# EAGLE library part RASPBERRY_PI_CM (library geusebio)
Raspberry Pi Compute Module As anounced in this blog post http://www.raspberrypi.org/raspberry-pi-compute-module-new-product/ Based on infomation from this schematic http://www.raspberrypi.org/wp-content/uploads/2014/04/RPI-CM-V1_1-SCHEMATIC.pdf Footprint is unproven and no matching part confimed as of yet
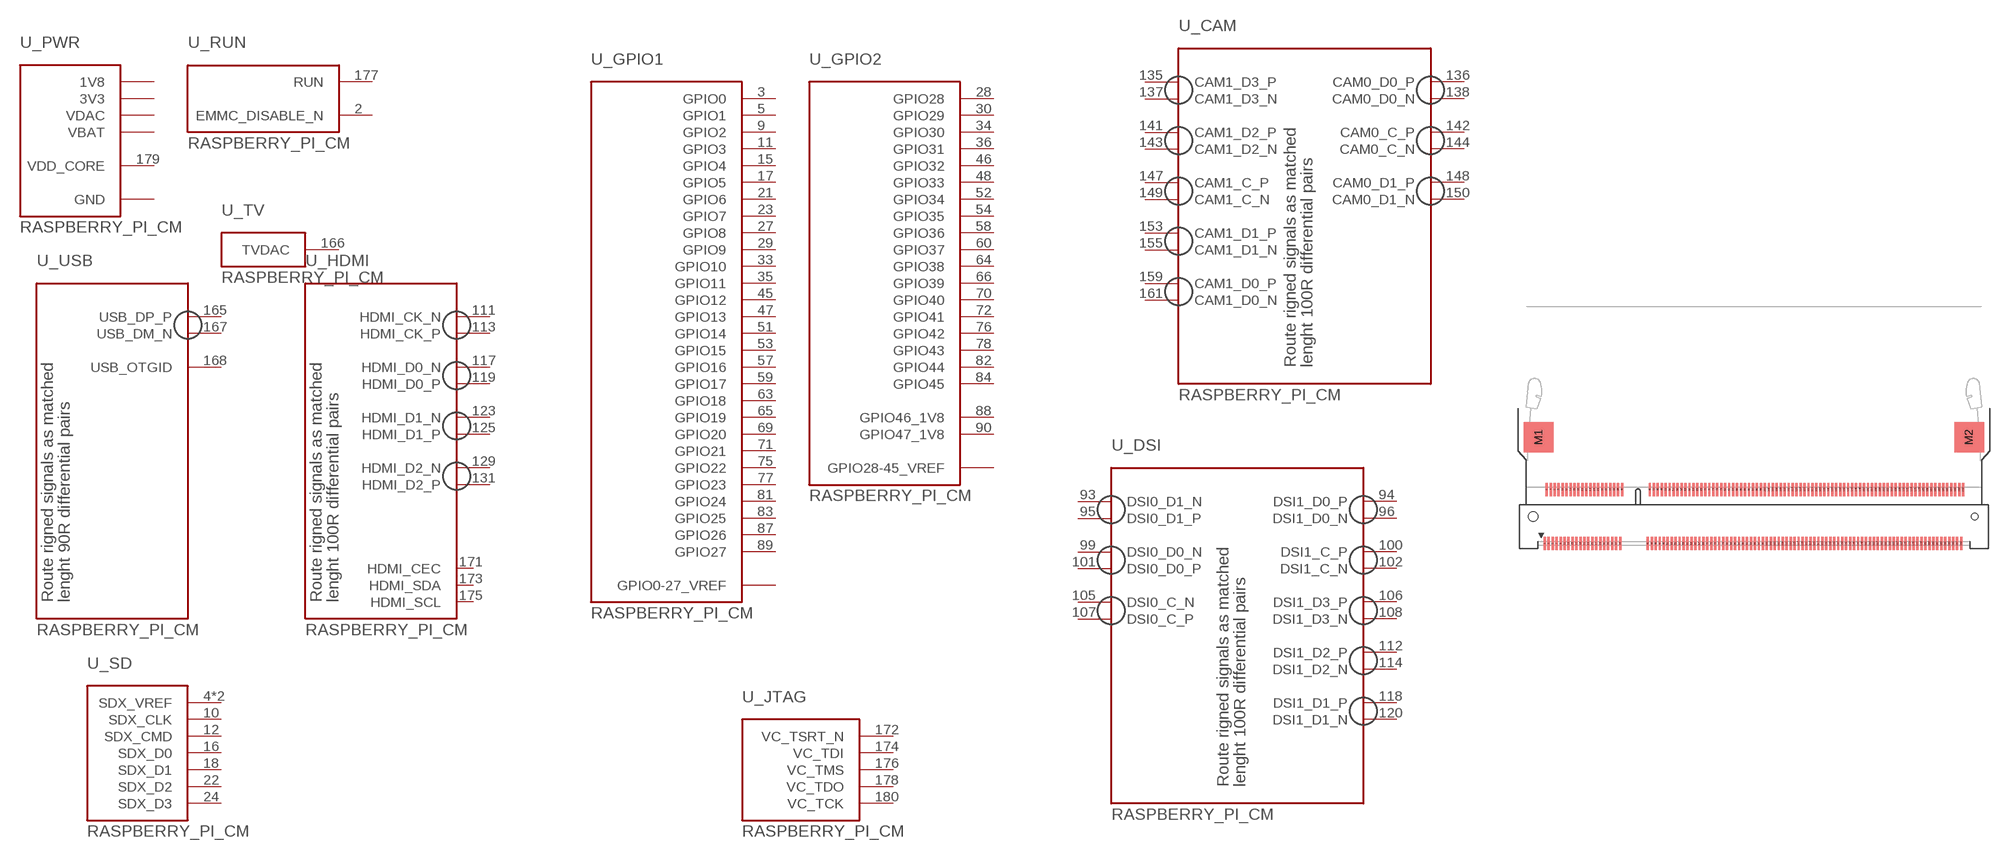
[diagram p14: symbol with the pads of 1-1376408-4; footprint 1-1376408-4]

Designator prefix U; gates _PWR=CM_PWR _RUN=CM_RUN _USB=CM_USB _TV=CM_TV _HDMI=CM_HDMI _GPIO1=CM_GPIO1 _GPIO2=CM_GPIO2 _CAM=CM_CAM _DSI=CM_DSI _JTAG=CM_JTAG _SD=CM_SD

## RASPBERRY_PI_CM-1-1376408-4  [1-1376408-4]
1  _PWR:GND
2  _RUN:EMMC_DISABLE_N
3  _GPIO1:GPIO0
4  _SD:SDX_VREF
5  _GPIO1:GPIO1
6  _SD:SDX_VREF
7  _PWR:GND
8  _PWR:GND
9  _GPIO1:GPIO2
10  _SD:SDX_CLK
11  _GPIO1:GPIO3
12  _SD:SDX_CMD
13  _PWR:GND
14  _PWR:GND
15  _GPIO1:GPIO4
16  _SD:SDX_D0
17  _GPIO1:GPIO5
18  _SD:SDX_D1
19  _PWR:GND
20  _PWR:GND
21  _GPIO1:GPIO6
22  _SD:SDX_D2
23  _GPIO1:GPIO7
24  _SD:SDX_D3
25  _PWR:GND
26  _PWR:GND
27  _GPIO1:GPIO8
28  _GPIO2:GPIO28
29  _GPIO1:GPIO9
30  _GPIO2:GPIO29
31  _PWR:GND
32  _PWR:GND
33  _GPIO1:GPIO10
34  _GPIO2:GPIO30
35  _GPIO1:GPIO11
36  _GPIO2:GPIO31
37  _PWR:GND
38  _PWR:GND
39  _GPIO1:GPIO0-27_VREF
40  _GPIO1:GPIO0-27_VREF
41  _GPIO2:GPIO28-45_VREF
42  _GPIO2:GPIO28-45_VREF
43  _PWR:GND
44  _PWR:GND
45  _GPIO1:GPIO12
46  _GPIO2:GPIO32
47  _GPIO1:GPIO13
48  _GPIO2:GPIO33
49  _PWR:GND
50  _PWR:GND
51  _GPIO1:GPIO14
52  _GPIO2:GPIO34
53  _GPIO1:GPIO15
54  _GPIO2:GPIO35
55  _PWR:GND
56  _PWR:GND
57  _GPIO1:GPIO16
58  _GPIO2:GPIO36
59  _GPIO1:GPIO17
60  _GPIO2:GPIO37
61  _PWR:GND
62  _PWR:GND
63  _GPIO1:GPIO18
64  _GPIO2:GPIO38
65  _GPIO1:GPIO19
66  _GPIO2:GPIO39
67  _PWR:GND
68  _PWR:GND
69  _GPIO1:GPIO20
70  _GPIO2:GPIO40
71  _GPIO1:GPIO21
72  _GPIO2:GPIO41
73  _PWR:GND
74  _PWR:GND
75  _GPIO1:GPIO22
76  _GPIO2:GPIO42
77  _GPIO1:GPIO23
78  _GPIO2:GPIO43
79  _PWR:GND
80  _PWR:GND
81  _GPIO1:GPIO24
82  _GPIO2:GPIO44
83  _GPIO1:GPIO25
84  _GPIO2:GPIO45
85  _PWR:GND
86  _PWR:GND
87  _GPIO1:GPIO26
88  _GPIO2:GPIO46_1V8
89  _GPIO1:GPIO27
90  _GPIO2:GPIO47_1V8
91  _PWR:GND
92  _PWR:GND
93  _DSI:DSI0_D1_N
94  _DSI:DSI1_D0_P
95  _DSI:DSI0_D1_P
96  _DSI:DSI1_D0_N
97  _PWR:GND
98  _PWR:GND
99  _DSI:DSI0_D0_N
100  _DSI:DSI1_C_P
101  _DSI:DSI0_D0_P
102  _DSI:DSI1_C_N
103  _PWR:GND
104  _PWR:GND
105  _DSI:DSI0_C_N
106  _DSI:DSI1_D3_P
107  _DSI:DSI0_C_P
108  _DSI:DSI1_D3_N
109  _PWR:GND
110  _PWR:GND
111  _HDMI:HDMI_CK_N
112  _DSI:DSI1_D2_P
113  _HDMI:HDMI_CK_P
114  _DSI:DSI1_D2_N
115  _PWR:GND
116  _PWR:GND
117  _HDMI:HDMI_D0_N
118  _DSI:DSI1_D1_P
119  _HDMI:HDMI_D0_P
120  _DSI:DSI1_D1_N
121  _PWR:GND
122  _PWR:GND
123  _HDMI:HDMI_D1_N
125  _HDMI:HDMI_D1_P
127  _PWR:GND
129  _HDMI:HDMI_D2_N
131  _HDMI:HDMI_D2_P
133  _PWR:GND
134  _PWR:GND
135  _CAM:CAM1_D3_P
136  _CAM:CAM0_D0_P
137  _CAM:CAM1_D3_N
138  _CAM:CAM0_D0_N
139  _PWR:GND
140  _PWR:GND
141  _CAM:CAM1_D2_P
142  _CAM:CAM0_C_P
143  _CAM:CAM1_D2_N
144  _CAM:CAM0_C_N
145  _PWR:GND
146  _PWR:GND
147  _CAM:CAM1_C_P
148  _CAM:CAM0_D1_P
149  _CAM:CAM1_C_N
150  _CAM:CAM0_D1_N
151  _PWR:GND
152  _PWR:GND
153  _CAM:CAM1_D1_P
155  _CAM:CAM1_D1_N
157  _PWR:GND
159  _CAM:CAM1_D0_P
161  _CAM:CAM1_D0_N
163  _PWR:GND
164  _PWR:GND
165  _USB:USB_DP_P
166  _TV:TVDAC
167  _USB:USB_DM_N
168  _USB:USB_OTGID
169  _PWR:GND
170  _PWR:GND
171  _HDMI:HDMI_CEC
172  _JTAG:VC_TSRT_N
173  _HDMI:HDMI_SDA
174  _JTAG:VC_TDI
175  _HDMI:HDMI_SCL
176  _JTAG:VC_TMS
177  _RUN:RUN
178  _JTAG:VC_TDO
179  _PWR:VDD_CORE
180  _JTAG:VC_TCK
181  _PWR:GND
182  _PWR:GND
183  _PWR:1V8
184  _PWR:1V8
185  _PWR:1V8
186  _PWR:1V8
187  _PWR:GND
188  _PWR:GND
189  _PWR:VDAC
190  _PWR:VDAC
191  _PWR:3V3
192  _PWR:3V3
193  _PWR:3V3
194  _PWR:3V3
195  _PWR:GND
196  _PWR:GND
197  _PWR:VBAT
198  _PWR:VBAT
199  _PWR:VBAT
200  _PWR:VBAT

## Footprint 1-1376408-4 (pad centres in mm)
DDR2 SODIMM SOCKET 0.6mm Pitch 200 Pos. Connector for Kontron X-Board 2.5V Source: http://catalog.tycoelectronics.com ... JPN_CD_1376408_S.pdf
smd 0.35 x 2: 1 -32.65,-4.1; 2 -32.35,4.1; 3 -32.05,-4.1; 4 -31.75,4.1; 5 -31.45,-4.1; 6 -31.15,4.1; 7 -30.85,-4.1; 8 -30.55,4.1; 9 -30.25,-4.1; 10 -29.95,4.1; 11 -29.65,-4.1; 12 -29.35,4.1; 13 -29.05,-4.1; 14 -28.75,4.1; 15 -28.45,-4.1; 16 -28.15,4.1; 17 -27.85,-4.1; 18 -27.55,4.1; 19 -27.25,-4.1; 20 -26.95,4.1; 21 -26.65,-4.1; 22 -26.35,4.1; 23 -26.05,-4.1; 24 -25.75,4.1; 25 -25.45,-4.1; 26 -25.15,4.1; 27 -24.85,-4.1; 28 -24.55,4.1; 29 -24.25,-4.1; 30 -23.95,4.1; 31 -23.65,-4.1; 32 -23.35,4.1; 33 -23.05,-4.1; 34 -22.75,4.1; 35 -22.45,-4.1; 36 -22.15,4.1; 37 -21.85,-4.1; 38 -21.55,4.1; 39 -21.25,-4.1; 40 -20.95,4.1; 41 -17.05,-4.1; 42 -16.75,4.1; 43 -16.45,-4.1; 44 -16.15,4.1; 45 -15.85,-4.1; 46 -15.55,4.1; 47 -15.25,-4.1; 48 -14.95,4.1; 49 -14.65,-4.1; 50 -14.35,4.1; 51 -14.05,-4.1; 52 -13.75,4.1; 53 -13.45,-4.1; 54 -13.15,4.1; 55 -12.85,-4.1; 56 -12.55,4.1; 57 -12.25,-4.1; 58 -11.95,4.1; 59 -11.65,-4.1; 60 -11.35,4.1; 61 -11.05,-4.1; 62 -10.75,4.1; 63 -10.45,-4.1; 64 -10.15,4.1; 65 -9.85,-4.1; 66 -9.55,4.1; 67 -9.25,-4.1; 68 -8.95,4.1; 69 -8.65,-4.1; 70 -8.35,4.1; 71 -8.05,-4.1; 72 -7.75,4.1; 73 -7.45,-4.1; 74 -7.15,4.1; 75 -6.85,-4.1; 76 -6.55,4.1; 77 -6.25,-4.1; 78 -5.95,4.1; 79 -5.65,-4.1; 80 -5.35,4.1; 81 -5.05,-4.1; 82 -4.75,4.1; 83 -4.45,-4.1; 84 -4.15,4.1; 85 -3.85,-4.1; 86 -3.55,4.1; 87 -3.25,-4.1; 88 -2.95,4.1; 89 -2.65,-4.1; 90 -2.35,4.1; 91 -2.05,-4.1; 92 -1.75,4.1; 93 -1.45,-4.1; 94 -1.15,4.1; 95 -0.85,-4.1; 96 -0.55,4.1; 97 -0.25,-4.1; 98 0.05,4.1; 99 0.35,-4.1; 100 0.65,4.1; 101 0.95,-4.1; 102 1.25,4.1; 103 1.55,-4.1; 104 1.85,4.1; 105 2.15,-4.1; 106 2.45,4.1; 107 2.75,-4.1; 108 3.05,4.1; 109 3.35,-4.1; 110 3.65,4.1; 111 3.95,-4.1; 112 4.25,4.1; 113 4.55,-4.1; 114 4.85,4.1; 115 5.15,-4.1; 116 5.45,4.1; 117 5.75,-4.1; 118 6.05,4.1; 119 6.35,-4.1; 120 6.65,4.1; 121 6.95,-4.1; 122 7.25,4.1; 123 7.55,-4.1; 124 7.85,4.1; 125 8.15,-4.1; 126 8.45,4.1; 127 8.75,-4.1; 128 9.05,4.1; 129 9.35,-4.1; 130 9.65,4.1; 131 9.95,-4.1; 132 10.25,4.1; 133 10.55,-4.1; 134 10.85,4.1; 135 11.15,-4.1; 136 11.45,4.1; 137 11.75,-4.1; 138 12.05,4.1; 139 12.35,-4.1; 140 12.65,4.1; 141 12.95,-4.1; 142 13.25,4.1; 143 13.55,-4.1; 144 13.85,4.1; 145 14.15,-4.1; 146 14.45,4.1; 147 14.75,-4.1; 148 15.05,4.1; 149 15.35,-4.1; 150 15.65,4.1; 151 15.95,-4.1; 152 16.25,4.1; 153 16.55,-4.1; 154 16.85,4.1; 155 17.15,-4.1; 156 17.45,4.1; 157 17.75,-4.1; 158 18.05,4.1; 159 18.35,-4.1; 160 18.65,4.1; 161 18.95,-4.1; 162 19.25,4.1; 163 19.55,-4.1; 164 19.85,4.1; 165 20.15,-4.1; 166 20.45,4.1; 167 20.75,-4.1; 168 21.05,4.1; 169 21.35,-4.1; 170 21.65,4.1; 171 21.95,-4.1; 172 22.25,4.1; 173 22.55,-4.1; 174 22.85,4.1; 175 23.15,-4.1; 176 23.45,4.1; 177 23.75,-4.1; 178 24.05,4.1; 179 24.35,-4.1; 180 24.65,4.1; 181 24.95,-4.1; 182 25.25,4.1; 183 25.55,-4.1; 184 25.85,4.1; 185 26.15,-4.1; 186 26.45,4.1; 187 26.75,-4.1; 188 27.05,4.1; 189 27.35,-4.1; 190 27.65,4.1; 191 27.95,-4.1; 192 28.25,4.1; 193 28.55,-4.1; 194 28.85,4.1; 195 29.15,-4.1; 196 29.45,4.1; 197 29.75,-4.1; 198 30.05,4.1; 199 30.35,-4.1; 200 30.65,4.1
smd 4.5 x 4.6: M1 -33.55,12; M2 31.55,12
hole 1.45 at -34.4,0
hole 0.95 at 32.4,0